# Altium schematic symbol library R0805.SchLib: 13 symbols
Pins are listed as number, name and electrical type; pins without a type are passive.

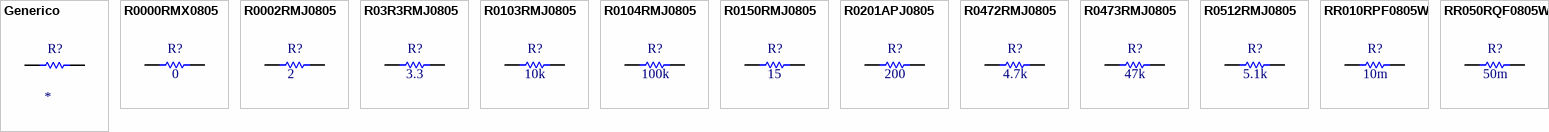
[diagram p0: symbols Generico to RR050RQF0805W]

## Generico
designator R?
Frequency: NC; Manufacturer Part Number: *; Working Temperature: *; Temperature Coefficient: *; Mounting: *; Short Description: *; Power: *; Ratings: *; Type: NC; Alternate Part Number 1: *; Alternate Part Number 2: *; Manufacturer: *; Tolerance: *; Current: NC; Revision Date: *; Package Reference: *; Voltage: NC; Value: *
footprint R0805 (Footprint not found)
pins: 1, 2

## R0000RMX0805
designator R?  value 0
0 Ohms Jumper 0.125W, 1/8W Chip Resistor 0805 (2012 Metric) Automotive AEC-Q200 Thick Film; Manufacturer Part Number: ERJ-6GEY0R00V; Manufacturer: Panasonic Electronic Components; Working Temperature: -55°C ~ 155°C; Short Description: RES 0 OHM 1/8W JUMPER 0805; Ratings: REACH, ROSH3, AEC-Q200; Frequency: NC; Temperature Coefficient: *; Mounting: SMT; Power: 1/8W; Type: NC; Alternate Part Number 1: *; Alternate Part Number 2: *; Tolerance: *; Current: NC; Revision Date: 02/08/21; Package Reference: 0805; Voltage: NC
footprint R0805 (Footprint not found)
pins: 1, 2

## R0002RMJ0805
designator R?  value 2
2 Ohms ±5% 0.125W, 1/8W Chip Resistor 0805 (2012 Metric) Automotive AEC-Q200 Thick Film; Manufacturer Part Number: ERJ-6GEYJ2R0V; Manufacturer: Panasonic Electronic Components; Working Temperature: -55°C ~ 155°C; Temperature Coefficient: -100/ +600ppm/°C; Short Description: RES SMD 2 OHM 5% 1/8W 0805; Ratings: REACH, ROSH3, AEC-Q200; Frequency: NC; Mounting: SMT; Power: 1/8W; Type: NC; Alternate Part Number 1: *; Alternate Part Number 2: *; Tolerance: ±5%; Current: NC; Revision Date: 21/09/21; Package Reference: 0805; Voltage: NC
footprint R0805 (Footprint not found)
pins: 1, 2

## R03R3RMJ0805
designator R?  value 3.3
3.3 Ohms ±5% 0.125W, 1/8W Chip Resistor 0805 (2012 Metric) Automotive AEC-Q200 Thick Film; Manufacturer Part Number: ERJ-6GEYJ3R3V; Manufacturer: Panasonic Electronic Components; Working Temperature: -55°C ~ 155°C; Temperature Coefficient: -100/ +600ppm/°C; Short Description: RES 3.3 OHM 1/8W 5% 0805; Ratings: REACH, ROSH3, AEC-Q200; Frequency: NC; Mounting: SMT; Power: 1/8W; Type: NC; Alternate Part Number 1: *; Alternate Part Number 2: *; Tolerance: ±5%; Current: NC; Revision Date: 02/08/21; Package Reference: 0805; Voltage: NC
footprint R0805 (Footprint not found)
pins: 1, 2

## R0103RMJ0805
designator R?  value 10k
10 kOhms ±5% 0.125W, 1/8W Chip Resistor 0805 (2012 Metric) Automotive AEC-Q200 Thick Film; Manufacturer Part Number: ERJ-6GEYJ103V; Manufacturer: Panasonic Electronic Components; Working Temperature: -55°C ~ 155°C; Temperature Coefficient: ±200ppm/°C; Short Description: RES SMD 10K OHM 5% 1/8W 0805; Ratings: REACH, ROSH3, AEC-Q200; Frequency: NC; Mounting: SMT; Power: 1/8W; Type: NC; Alternate Part Number 1: *; Alternate Part Number 2: *; Tolerance: ±5%; Current: NC; Revision Date: 02/08/21; Package Reference: 0805; Voltage: NC
footprint R0805 (Footprint not found)
pins: 1, 2

## R0104RMJ0805
designator R?  value 100k
100 kOhms ±5% 0.125W, 1/8W Chip Resistor 0805 (2012 Metric) Automotive AEC-Q200 Thick Film; Manufacturer Part Number: ERJ-6GEYJ104V; Manufacturer: Panasonic Electronic Components; Working Temperature: -55°C ~ 155°C; Temperature Coefficient: ±200ppm/°C; Short Description: RES 100K OHM 1/8W 5% 0805; Ratings: REACH, ROSH3, AEC-Q200; Frequency: NC; Mounting: SMT; Power: 1/8W; Type: NC; Alternate Part Number 1: *; Alternate Part Number 2: *; Tolerance: ±5%; Current: NC; Revision Date: 02/08/21; Package Reference: 0805; Voltage: NC
footprint R0805 (Footprint not found)
pins: 1, 2

## R0150RMJ0805
designator R?  value 15
15 Ohms ±5% 0.125W, 1/8W Chip Resistor 0805 (2012 Metric) Automotive AEC-Q200 Thick Film; Manufacturer Part Number: ERJ-6GEYJ150V; Manufacturer: Panasonic Electronic Components; Working Temperature: -55°C ~ 155°C; Temperature Coefficient: ±200ppm/°C; Short Description: RES 15 OHM 1/8W 5% 0805; Ratings: REACH, ROSH3, AEC-Q200; Frequency: NC; Mounting: SMT; Power: 1/8W; Type: NC; Alternate Part Number 1: *; Alternate Part Number 2: *; Tolerance: ±5%; Current: NC; Revision Date: 02/08/21; Package Reference: 0805; Voltage: NC
footprint R0805 (Footprint not found)
pins: 1, 2

## R0201APJ0805
designator R?  value 200
200 Ohms ±5% 0.5W, 1/2W Chip Resistor 0805 (2012 Metric) Automotive AEC-Q200, Pulse Withstanding Thick Film; Manufacturer Part Number: ERJ-P06J201V; Manufacturer: Panasonic Electronic Components; Working Temperature: -55°C ~ 155°C; Temperature Coefficient: ±200ppm/°C; Short Description: RES ANTISURGE 200 1/2W 5% 0805; Power: 1/8W; Ratings: REACH, ROSH3, AEC-Q200; Frequency: NC; Mounting: SMT; Type: NC; Alternate Part Number 1: *; Alternate Part Number 2: *; Tolerance: ±5%; Current: NC; Revision Date: 02/08/21; Package Reference: 0805; Voltage: NC
footprint R0805 (Footprint not found)
pins: 1, 2

## R0472RMJ0805
designator R?  value 4.7k
4.7 kOhms ±5% 0.125W, 1/8W Chip Resistor 0805 (2012 Metric) Automotive AEC-Q200 Thick Film; Manufacturer Part Number: ERJ-6GEYJ472V; Manufacturer: Panasonic Electronic Components; Working Temperature: -55°C ~ 155°C; Temperature Coefficient: ±200ppm/°C; Short Description: RES 4.7K OHM 1/8W 5% 0805; Ratings: REACH, ROSH3, AEC-Q200; Frequency: NC; Mounting: SMT; Power: 1/8W; Type: NC; Alternate Part Number 1: *; Alternate Part Number 2: *; Tolerance: ±5%; Current: NC; Revision Date: 02/08/21; Package Reference: 0805; Voltage: NC
footprint R0805 (Footprint not found)
pins: 1, 2

## R0473RMJ0805
designator R?  value 47k
47 kOhms ±5% 0.125W, 1/8W Chip Resistor 0805 (2012 Metric) Automotive AEC-Q200 Thick Film; Manufacturer Part Number: ERJ-6GEYJ473V; Manufacturer: Panasonic Electronic Components; Working Temperature: -55°C ~ 155°C; Temperature Coefficient: ±200ppm/°C; Short Description: RES 47K OHM 1/8W 5% 0805; Ratings: REACH, ROSH3, AEC-Q200; Frequency: NC; Mounting: SMT; Power: 1/8W; Type: NC; Alternate Part Number 1: *; Alternate Part Number 2: *; Tolerance: ±5%; Current: NC; Revision Date: 02/08/21; Package Reference: 0805; Voltage: NC
footprint R0805 (Footprint not found)
pins: 1, 2

## R0512RMJ0805
designator R?  value 5.1k
5.1 kOhms ±5% 0.125W, 1/8W Chip Resistor 0805 (2012 Metric) Automotive AEC-Q200 Thick Film; Manufacturer Part Number: ERJ-6GEYJ512V; Manufacturer: Panasonic Electronic Components; Working Temperature: -55°C ~ 155°C; Temperature Coefficient: ±200ppm/°C; Short Description: RES 5.1K OHM 1/8W 5% 0805; Ratings: REACH, ROSH3, AEC-Q200; Frequency: NC; Mounting: SMT; Power: 1/8W; Type: NC; Alternate Part Number 1: *; Alternate Part Number 2: *; Tolerance: ±5%; Current: NC; Revision Date: 02/08/21; Package Reference: 0805; Voltage: NC
footprint R0805 (Footprint not found)
pins: 1, 2

## RR010RPF0805W
designator R?  value 10m
10 mOhms ±1% 0.5W, 1/2W Chip Resistor 0805 (2012 Metric) Current Sense, Moisture Resistant Thick Film; Manufacturer Part Number: RUK2012FR010CS; Manufacturer: Panasonic Electronic Components; Working Temperature: -55°C ~ 155°C; Temperature Coefficient: ±100ppm/°C; Short Description: RES 0.01 OHM 1/2W 1% 0805; Ratings: REACH, ROSH3; Frequency: NC; Mounting: SMT; Power: 1/2W; Type: NC; Alternate Part Number 1: *; Alternate Part Number 2: *; Tolerance: ±1%; Current: NC; Revision Date: 02/08/21; Package Reference: 0805; Voltage: NC
footprint R0805 (Footprint not found)
pins: 1, 2

## RR050RQF0805W
designator R?  value 50m
50 mOhms ±1% 0.75W, 3/4W Chip Resistor 0805 (2012 Metric) Current Sense, Flame Retardant Coating, Safety Metal Element; Manufacturer Part Number: MCS1320R050FER; Alternate Part Number 1: WSLP0805R0500FEA; Manufacturer: Ohmite; Working Temperature: -55°C ~ 150°C; Temperature Coefficient: ±50ppm/°C; Short Description: RES 0.05 OHM 3/4W 1% 0805; Ratings: REACH, ROSH3; Frequency: NC; Mounting: SMT; Power: 3/4W; Type: NC; Alternate Part Number 2: *; Tolerance: ±1%; Current: NC; Revision Date: 21/10/21; Package Reference: 0805; Voltage: NC
footprint R0805 (Footprint not found)
pins: 1, 2